# Altium schematic symbol library SCH - POWER - SWITCHMODE - TI TPS65313-Q1RWG.SchLib: 1 symbol
Pins are listed as number, name and electrical type; pins without a type are passive.

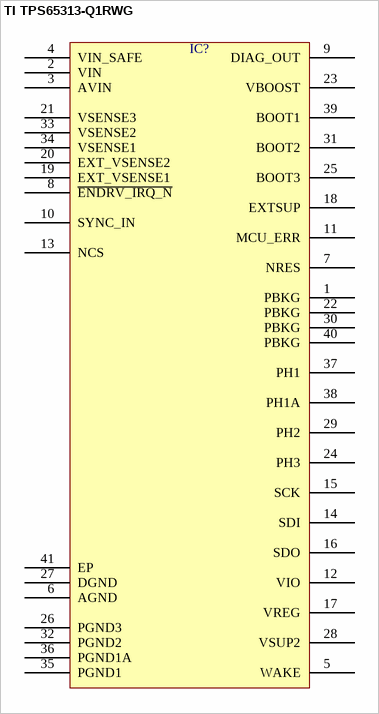
[diagram p0: symbol TI TPS65313-Q1RWG]

## TI TPS65313-Q1RWG
designator IC?  (value not drawn)
pins: 1 PBKG, 2 VIN, 3 AVIN, 4 VIN_SAFE, 5 WAKE, 6 AGND, 7 NRES, 8 ~{ENDRV_IRQ_N}, 9 DIAG_OUT, 10 SYNC_IN, 11 MCU_ERR, 12 VIO, 13 NCS, 14 SDI, 15 SCK, 16 SDO, 17 VREG, 18 EXTSUP, 19 EXT_VSENSE1, 20 EXT_VSENSE2, 21 VSENSE3, 22 PBKG, 23 VBOOST, 24 PH3, 25 BOOT3, 26 PGND3, 27 DGND, 28 VSUP2, 29 PH2, 30 PBKG, 31 BOOT2, 32 PGND2, 33 VSENSE2, 34 VSENSE1, 35 PGND1, 36 PGND1A, 37 PH1, 38 PH1A, 39 BOOT1, 40 PBKG, 41 EP